# Altium schematic symbol library Molex_Connectors.SchLib: 3 symbols
Pins are listed as number, name and electrical type; pins without a type are passive.

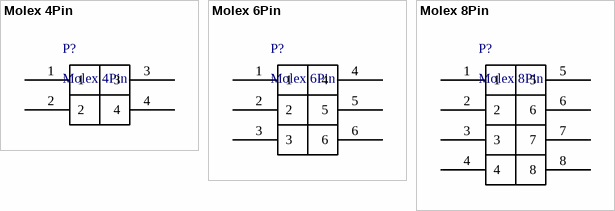
[diagram p0: symbols Molex 4Pin to Molex 8Pin]

## Molex 4Pin
designator P?
pins: 1, 2, 3, 4

## Molex 6Pin
designator P?
pins: 1, 2, 3, 4, 5, 6

## Molex 8Pin
designator P?
pins: 1, 2, 3, 4, 5, 6, 7, 8